# Altium footprint library Con IDC.PcbLib: 111 footprints (part 3 of 8)
Each footprint in its own frame and in the unit in brackets; x right, y up, seen from the top. Pads: shape width x height; smd on the part's side, far side on the other; paste and mask are expansions set on the pad; w line width, h text height; cw(c..) or ccw(c..) is an arc to the next point about the centre after c.
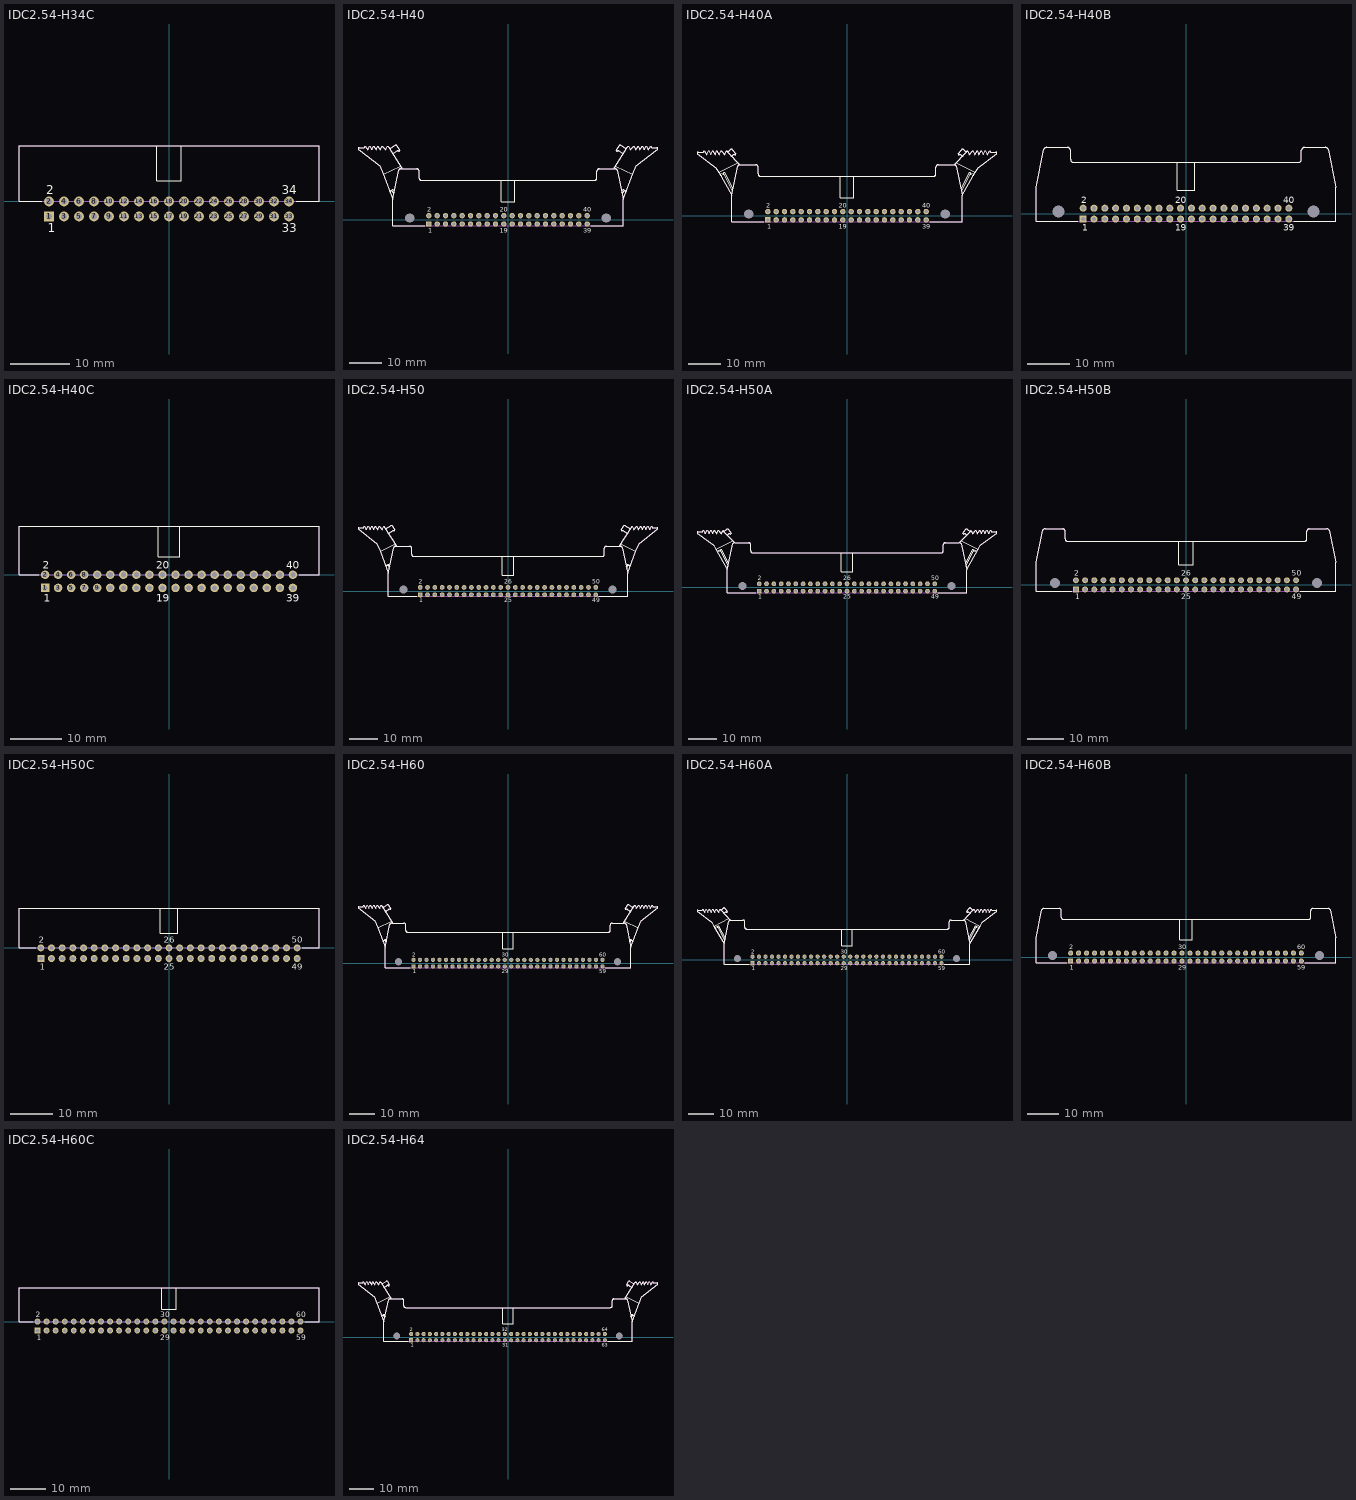
[diagram p2: the footprints below, top view; thin cyan lines are the x and y axes]

## IDC2.54-H34C [mm] "Connector; IDC, Low Profile Male Header, Thru-Hole; 34 Position; Right Angle; Pitch 2.54 mm; Body 50.80 x 8.9 x 9.2 mm (LxWxH)"
height 9.2
pads (34):
  rect 1.65x1.65 hole 1: 1(-20.32,-2.54)
  round 1.65 hole 1: 2(-20.32,0) 3(-17.78,-2.54) 4(-17.78,0) 5(-15.24,-2.54) 6(-15.24,0) 7(-12.7,-2.54) 8(-12.7,0) 9(-10.16,-2.54) 10(-10.16,0) 11(-7.62,-2.54) 12(-7.62,0) 13(-5.08,-2.54) 14(-5.08,0) 15(-2.54,-2.54) 16(-2.54,0) 17(0,-2.54) 18(0,0) 19(2.54,-2.54) 20(2.54,0) 21(5.08,-2.54) 22(5.08,0) 23(7.62,-2.54) 24(7.62,0) 25(10.16,-2.54) 26(10.16,0) 27(12.7,-2.54) 28(12.7,0) 29(15.24,-2.54) 30(15.24,0) 31(17.78,-2.54) 32(17.78,0) 33(20.32,-2.54) 34(20.32,0)
Top Overlay:
  lines w0.2: -21.545,0 -25.4,0 -25.4,9.45 25.4,9.45 25.4,0 21.545,0 ; -2.05,9.45 -2.05,3.48 2.05,3.48 2.05,9.45
  text "33" at 19.07,-5.24 h1.5
  text "34" at 19.07,1.2 h1.5
  text "1" at -20.57,-5.24 h1.5
  text "2" at -20.82,1.2 h1.5
Mechanical 13:
  lines w0.1: -25.4,0 25.4,0 25.4,9.45 -25.4,9.45 -25.4,0
3D body: height 9.2, standoff 0, extent -25.4,0 25.4,9.45

## IDC2.54-H40 [mm] "Connector; IDC, Thru-Hole; 40 Position; Right Angle; Pitch 2.54 mm; Body 70.40 x 8.5 x 25.75 mm (LxHxW), Locking levers"
height 8.5
pads (42):
  rect 1.65x1.65 hole 1: 1(-24.13,-1.27)
  round 1.65 hole 1: 2(-24.13,1.27) 3(-21.59,-1.27) 4(-21.59,1.27) 5(-19.05,-1.27) 6(-19.05,1.27) 7(-16.51,-1.27) 8(-16.51,1.27) 9(-13.97,-1.27) 10(-13.97,1.27) 11(-11.43,-1.27) 12(-11.43,1.27) 13(-8.89,-1.27) 14(-8.89,1.27) 15(-6.35,-1.27) 16(-6.35,1.27) 17(-3.81,-1.27) 18(-3.81,1.27) 19(-1.27,-1.27) 20(-1.27,1.27) 21(1.27,-1.27) 22(1.27,1.27) 23(3.81,-1.27) 24(3.81,1.27) 25(6.35,-1.27) 26(6.35,1.27) 27(8.89,-1.27) 28(8.89,1.27) 29(11.43,-1.27) 30(11.43,1.27) 31(13.97,-1.27) 32(13.97,1.27) 33(16.51,-1.27) 34(16.51,1.27) 35(19.05,-1.27) 36(19.05,1.27) 37(21.59,-1.27) 38(21.59,1.27) 39(24.13,-1.27) 40(24.13,1.27)
  round 2.5 hole 2.8 unplated: MH1(-29.97,0.53) MH2(29.97,0.53)
Top Overlay:
  lines w0.2: -36.17,8.851 -35.205,9.3 ; -36.041,8.563 -35.37,8.877 ; -36.035,21.6 -34.312,22.725 cw(c-34.163,22.387) -33.897,22.644 -32.972,21.245 cw(c-33.292,21.225) -33.344,20.91 ccw(c-33.612,20.595) -33.747,20.985 ; -35.113,20.103 -33.75,20.991 ; -34.843,7.925 -35.37,8.877 ; -34.743,8.378 -35.205,9.3 ; -33.37,15.102 cw(c-32.725,14.83) -32.71,15.53 ; -32.815,16.383 -38.039,13.84 ; -32.65,15.53 ccw(c-32.665,14.83) -33.31,15.102 -35.2,6.23 ; -32.244,15.53 -36.378,22.058 ccw(c-36.701,21.956) -36.843,22.265 -37.25,21.301 -38.28,22.501 -38.91,21.301 -39.66,22.501 -40.21,21.301 -40.91,22.501 -41.53,21.301 -42.18,22.501 -42.78,21.301 -43.525,22.501 ; -25.355,-1.77 -35.2,-1.77 -35.2,6.23 ; -2.05,5.53 -2.05,12.03 ; -2.04,5.53 2.06,5.53 ; 2.05,5.534 2.05,12.03 ; 25.24,-1.77 35.2,-1.77 35.2,6.23 ; 32.244,15.53 36.378,22.058 cw(c36.701,21.956) 36.843,22.265 37.25,21.301 38.28,22.501 38.91,21.301 39.66,22.501 40.21,21.301 40.91,22.501 41.53,21.301 42.18,22.501 42.78,21.301 43.525,22.501 ; 32.65,15.53 cw(c32.665,14.83) 33.31,15.102 35.2,6.23 ; 32.66,15.53 27.8,15.53 ccw(c27.8,14.83) 27.1,14.83 27.1,12.73 cw(c26.4,12.73) 26.4,12.03 -26.4,12.03 cw(c-26.4,12.73) -27.1,12.73 -27.1,14.83 ccw(c-27.8,14.83) -27.8,15.53 ; 32.815,16.383 38.039,13.84 ; 33.747,20.985 ccw(c33.612,20.595) 33.344,20.91 cw(c33.292,21.225) 32.972,21.245 33.897,22.644 cw(c34.163,22.387) 34.312,22.725 36.035,21.6 ; 33.75,20.991 35.113,20.103 ; 34.743,8.378 35.205,9.3 ; 34.843,7.925 35.37,8.877 ; 36.041,8.563 35.37,8.877 ; 36.17,8.851 35.205,9.3 ; -43.78,22.03 -43.525,22.501 ; -43.78,22.03 -43.525,22.501 ; -43.78,22.03 -45.391,22.03 ccw(c-45.391,21.69) -45.7,21.549 -39.165,16.455 -38.039,13.84 ; -38.039,13.84 -35.2,6.23 ; -35.37,8.877 -35.205,9.3 ; -27.8,15.53 -32.66,15.53 -27.8,15.53 ; 35.2,6.23 38.039,13.84 ; 35.205,9.3 35.37,8.877 ; 38.039,13.84 39.165,16.455 45.7,21.549 ccw(c45.391,21.69) 45.391,22.03 43.78,22.03 ; 43.525,22.501 43.78,22.03 ; 43.525,22.501 43.78,22.03
  text "39" at 22.88,-3.97 h1.5
  text "40" at 22.88,2.47 h1.5
  text "1" at -24.38,-3.97 h1.5
  text "2" at -24.63,2.47 h1.5
  text "20" at -2.52,2.47 h1.5
  text "19" at -2.52,-3.97 h1.5
Mechanical 13:
  lines w0.1: -36.035,21.6 -34.312,22.725 cw(c-34.163,22.387) -33.897,22.644 -32.972,21.245 cw(c-33.292,21.225) -33.344,20.91 ccw(c-33.612,20.595) -33.747,20.985 ; -35.113,20.103 -33.75,20.991 ; -33.37,15.102 cw(c-32.725,14.83) -32.71,15.53 ; -32.65,15.53 ccw(c-32.665,14.83) -33.31,15.102 -35.2,6.23 ; -32.244,15.53 -36.378,22.058 ccw(c-36.701,21.956) -36.843,22.265 -37.25,21.301 -38.28,22.501 -38.91,21.301 -39.66,22.501 -40.21,21.301 -40.91,22.501 -41.53,21.301 -42.18,22.501 -42.78,21.301 -43.525,22.501 ; 32.244,15.53 36.378,22.058 cw(c36.701,21.956) 36.843,22.265 37.25,21.301 38.28,22.501 38.91,21.301 39.66,22.501 40.21,21.301 40.91,22.501 41.53,21.301 42.18,22.501 42.78,21.301 43.525,22.501 ; 32.65,15.53 cw(c32.665,14.83) 33.31,15.102 35.2,6.23 ; 32.66,15.53 27.8,15.53 ccw(c27.8,14.83) 27.1,14.83 27.1,12.73 cw(c26.4,12.73) 26.4,12.03 -26.4,12.03 cw(c-26.4,12.73) -27.1,12.73 -27.1,14.83 ccw(c-27.8,14.83) -27.8,15.53 ; 33.747,20.985 ccw(c33.612,20.595) 33.344,20.91 cw(c33.292,21.225) 32.972,21.245 33.897,22.644 cw(c34.163,22.387) 34.312,22.725 36.035,21.6 ; 33.75,20.991 35.113,20.103 ; -43.78,22.03 -43.525,22.501 ; -43.78,22.03 -43.525,22.501 ; -43.78,22.03 -45.391,22.03 ccw(c-45.391,21.69) -45.7,21.549 -39.165,16.455 -38.039,13.84 -35.2,6.23 ; -35.2,6.23 -35.2,-1.77 35.2,-1.77 35.2,6.23 ; -27.8,15.53 -32.66,15.53 -27.8,15.53 ; 35.2,6.23 38.039,13.84 39.165,16.455 45.7,21.549 ccw(c45.391,21.69) 45.391,22.03 43.78,22.03 ; 43.525,22.501 43.78,22.03 ; 43.525,22.501 43.78,22.03
3D body: height 8.5, standoff 0, extent -35.2,-1.801 35.201,15.502

## IDC2.54-H40A [mm] "Connector; IDC, Thru-Hole; 40 Position; Right Angle; Pitch 2.54 mm; Body 70.40 x 8.5 x 23.30 mm (LxHxW), Locking levers"
height 8.5
pads (42):
  rect 1.65x1.65 hole 1: 1(-24.13,-1.27)
  round 1.65 hole 1: 2(-24.13,1.27) 3(-21.59,-1.27) 4(-21.59,1.27) 5(-19.05,-1.27) 6(-19.05,1.27) 7(-16.51,-1.27) 8(-16.51,1.27) 9(-13.97,-1.27) 10(-13.97,1.27) 11(-11.43,-1.27) 12(-11.43,1.27) 13(-8.89,-1.27) 14(-8.89,1.27) 15(-6.35,-1.27) 16(-6.35,1.27) 17(-3.81,-1.27) 18(-3.81,1.27) 19(-1.27,-1.27) 20(-1.27,1.27) 21(1.27,-1.27) 22(1.27,1.27) 23(3.81,-1.27) 24(3.81,1.27) 25(6.35,-1.27) 26(6.35,1.27) 27(8.89,-1.27) 28(8.89,1.27) 29(11.43,-1.27) 30(11.43,1.27) 31(13.97,-1.27) 32(13.97,1.27) 33(16.51,-1.27) 34(16.51,1.27) 35(19.05,-1.27) 36(19.05,1.27) 37(21.59,-1.27) 38(21.59,1.27) 39(24.13,-1.27) 40(24.13,1.27)
  round 2.5 hole 2.8 unplated: MH1(-29.97,0.53) MH2(29.97,0.53)
Top Overlay:
  lines w0.2: -38.869,12.722 -37.381,13.218 ; -38.641,12.377 -37.623,12.716 ; -35.238,18.198 -34.673,18.617 cw(c-34.537,18.227) -34.27,18.542 ccw(c-34.217,18.857) -33.898,18.877 -34.957,20.156 ccw(c-35.223,19.899) -35.372,20.238 -36.378,19.388 ; -34.953,7.442 -37.623,12.716 ; -34.806,8.195 -37.381,13.218 ; -33.37,15.102 cw(c-32.725,14.83) -32.71,15.53 ; -33.32,16.204 -39.139,13.199 ; -32.707,15.533 -36.378,19.388 ; -32.65,15.53 ccw(c-32.665,14.83) -33.31,15.102 -35.2,6.23 ; -25.355,-1.77 -35.2,-1.77 -35.2,6.23 ; -2.05,5.53 -2.05,12.03 ; -2.04,5.53 2.06,5.53 ; 2.05,5.534 2.05,12.03 ; 25.24,-1.77 35.2,-1.77 35.2,6.23 ; 32.65,15.53 cw(c32.665,14.83) 33.31,15.102 35.2,6.23 ; 32.66,15.53 27.8,15.53 ccw(c27.8,14.83) 27.1,14.83 27.1,12.73 cw(c26.4,12.73) 26.4,12.03 -26.4,12.03 cw(c-26.4,12.73) -27.1,12.73 -27.1,14.83 ccw(c-27.8,14.83) -27.8,15.53 ; 32.707,15.533 36.378,19.388 ; 33.32,16.204 39.139,13.199 ; 34.806,8.195 37.381,13.218 ; 34.953,7.442 37.623,12.716 ; 35.238,18.198 34.673,18.617 ccw(c34.537,18.227) 34.27,18.542 cw(c34.217,18.857) 33.898,18.877 34.957,20.156 cw(c35.223,19.899) 35.372,20.238 36.378,19.388 ; 38.641,12.377 37.623,12.716 ; 38.869,12.722 37.381,13.218 ; -43.78,19.359 -43.524,19.83 ; -43.78,19.359 -43.524,19.83 ; -43.78,19.359 -45.391,19.359 ccw(c-45.391,19.02) -45.7,18.879 -39.945,14.654 -39.139,13.199 ; -43.524,19.83 -42.78,18.63 -42.18,19.83 -41.53,18.63 -40.91,19.83 -40.21,18.63 -39.66,19.83 -38.91,18.63 -38.28,19.83 -37.25,18.63 -36.843,19.594 cw(c-36.701,19.285) -36.378,19.388 ; -39.139,13.199 -35.2,6.23 ; -37.623,12.716 -37.381,13.218 ; -27.8,15.53 -32.66,15.53 -27.8,15.53 ; 35.2,6.23 39.139,13.199 ; 36.378,19.388 cw(c36.701,19.285) 36.843,19.594 37.25,18.63 38.28,19.83 38.91,18.63 39.66,19.83 40.21,18.63 40.91,19.83 41.53,18.63 42.18,19.83 42.78,18.63 43.524,19.83 ; 37.381,13.218 37.623,12.716 ; 39.139,13.199 39.945,14.654 45.7,18.879 ccw(c45.391,19.02) 45.391,19.359 43.78,19.359 ; 43.524,19.83 43.78,19.359 ; 43.524,19.83 43.78,19.359
  text "19" at -2.52,-3.97 h1.5
  text "20" at -2.52,2.47 h1.5
  text "2" at -24.63,2.47 h1.5
  text "1" at -24.38,-3.97 h1.5
  text "40" at 22.88,2.47 h1.5
  text "39" at 22.88,-3.97 h1.5
Mechanical 13:
  lines w0.1: -35.238,18.198 -34.673,18.617 cw(c-34.537,18.227) -34.27,18.542 ccw(c-34.217,18.857) -33.898,18.877 -34.957,20.156 ccw(c-35.223,19.899) -35.372,20.238 -36.378,19.388 ; -33.37,15.102 cw(c-32.725,14.83) -32.71,15.53 ; -32.707,15.533 -36.378,19.388 ; -32.65,15.53 ccw(c-32.665,14.83) -33.31,15.102 -35.2,6.23 ; 32.65,15.53 cw(c32.665,14.83) 33.31,15.102 35.2,6.23 ; 32.66,15.53 27.8,15.53 ccw(c27.8,14.83) 27.1,14.83 27.1,12.73 cw(c26.4,12.73) 26.4,12.03 -26.4,12.03 cw(c-26.4,12.73) -27.1,12.73 -27.1,14.83 ccw(c-27.8,14.83) -27.8,15.53 ; 32.707,15.533 36.378,19.388 ; 35.238,18.198 34.673,18.617 ccw(c34.537,18.227) 34.27,18.542 cw(c34.217,18.857) 33.898,18.877 34.957,20.156 cw(c35.223,19.899) 35.372,20.238 36.378,19.388 ; -43.78,19.359 -43.524,19.83 ; -43.78,19.359 -45.391,19.359 ccw(c-45.391,19.02) -45.7,18.879 -39.945,14.654 -39.139,13.199 -35.2,6.23 ; -43.78,19.359 -43.524,19.83 ; -43.524,19.83 -42.78,18.63 -42.18,19.83 -41.53,18.63 -40.91,19.83 -40.21,18.63 -39.66,19.83 -38.91,18.63 -38.28,19.83 -37.25,18.63 -36.843,19.594 cw(c-36.701,19.285) -36.378,19.388 ; -35.2,6.23 -35.2,-1.77 35.2,-1.77 35.2,6.23 ; -27.8,15.53 -32.66,15.53 -27.8,15.53 ; 35.2,6.23 39.139,13.199 39.945,14.654 45.7,18.879 ccw(c45.391,19.02) 45.391,19.359 43.78,19.359 ; 36.378,19.388 cw(c36.701,19.285) 36.843,19.594 37.25,18.63 38.28,19.83 38.91,18.63 39.66,19.83 40.21,18.63 40.91,19.83 41.53,18.63 42.18,19.83 42.78,18.63 43.524,19.83 ; 43.524,19.83 43.78,19.359 ; 43.524,19.83 43.78,19.359
3D body: height 8.5, standoff 0, extent -35.2,-1.801 35.201,15.502

## IDC2.54-H40B [mm] "Connector; IDC, Thru-Hole; 40 Position; Right Angle; Pitch 2.54 mm; Body 70.40 x 8.5 x 17.30 mm (LxHxW), Without locking levers"
height 8.5
pads (42):
  rect 1.65x1.65 hole 1: 1(-24.13,-1.27)
  round 1.65 hole 1: 2(-24.13,1.27) 3(-21.59,-1.27) 4(-21.59,1.27) 5(-19.05,-1.27) 6(-19.05,1.27) 7(-16.51,-1.27) 8(-16.51,1.27) 9(-13.97,-1.27) 10(-13.97,1.27) 11(-11.43,-1.27) 12(-11.43,1.27) 13(-8.89,-1.27) 14(-8.89,1.27) 15(-6.35,-1.27) 16(-6.35,1.27) 17(-3.81,-1.27) 18(-3.81,1.27) 19(-1.27,-1.27) 20(-1.27,1.27) 21(1.27,-1.27) 22(1.27,1.27) 23(3.81,-1.27) 24(3.81,1.27) 25(6.35,-1.27) 26(6.35,1.27) 27(8.89,-1.27) 28(8.89,1.27) 29(11.43,-1.27) 30(11.43,1.27) 31(13.97,-1.27) 32(13.97,1.27) 33(16.51,-1.27) 34(16.51,1.27) 35(19.05,-1.27) 36(19.05,1.27) 37(21.59,-1.27) 38(21.59,1.27) 39(24.13,-1.27) 40(24.13,1.27)
  round 2.5 hole 2.8 unplated: MH1(-29.97,0.53) MH2(29.97,0.53)
Top Overlay:
  lines w0.2: -32.71,15.53 ccw(c-32.725,14.83) -33.37,15.102 -35.2,6.23 -35.2,-1.77 -25.355,-1.77 ; -32.66,15.53 -27.8,15.53 cw(c-27.8,14.83) -27.1,14.83 -27.1,12.73 ccw(c-26.4,12.73) -26.4,12.03 26.4,12.03 ccw(c26.4,12.73) 27.1,12.73 27.1,14.83 cw(c27.8,14.83) 27.8,15.53 32.66,15.53 ; -2.05,5.53 -2.05,12.03 ; -2.04,5.53 2.06,5.53 ; 2.05,5.534 2.05,12.03 ; 25.24,-1.77 35.2,-1.77 35.2,6.23 33.37,15.102 ccw(c32.725,14.83) 32.71,15.53
  text "19" at -2.52,-3.97 h1.5
  text "20" at -2.52,2.47 h1.5
  text "2" at -24.63,2.47 h1.5
  text "1" at -24.38,-3.97 h1.5
  text "40" at 22.88,2.47 h1.5
  text "39" at 22.88,-3.97 h1.5
Mechanical 13:
  lines w0.1: -32.71,15.53 ccw(c-32.725,14.83) -33.37,15.102 -35.2,6.23 -35.2,-1.77 35.2,-1.77 35.2,6.23 33.37,15.102 ccw(c32.725,14.83) 32.71,15.53 ; -32.66,15.53 -27.8,15.53 cw(c-27.8,14.83) -27.1,14.83 -27.1,12.73 ccw(c-26.4,12.73) -26.4,12.03 26.4,12.03 ccw(c26.4,12.73) 27.1,12.73 27.1,14.83 cw(c27.8,14.83) 27.8,15.53 32.66,15.53
3D body: height 8.5, standoff 0, extent -35.2,-1.801 35.201,15.502

## IDC2.54-H40C [mm] "Connector; IDC, Low Profile Male Header, Thru-Hole; 40 Position; Right Angle; Pitch 2.54 mm; Body 58.42 x 8.9 x 9.2 mm (LxWxH)"
height 9.2
pads (40):
  rect 1.65x1.65 hole 1: 1(-24.13,-2.54)
  round 1.65 hole 1: 2(-24.13,0) 3(-21.59,-2.54) 4(-21.59,0) 5(-19.05,-2.54) 6(-19.05,0) 7(-16.51,-2.54) 8(-16.51,0) 9(-13.97,-2.54) 10(-13.97,0) 11(-11.43,-2.54) 12(-11.43,0) 13(-8.89,-2.54) 14(-8.89,0) 15(-6.35,-2.54) 16(-6.35,0) 17(-3.81,-2.54) 18(-3.81,0) 19(-1.27,-2.54) 20(-1.27,0) 21(1.27,-2.54) 22(1.27,0) 23(3.81,-2.54) 24(3.81,0) 25(6.35,-2.54) 26(6.35,0) 27(8.89,-2.54) 28(8.89,0) 29(11.43,-2.54) 30(11.43,0) 31(13.97,-2.54) 32(13.97,0) 33(16.51,-2.54) 34(16.51,0) 35(19.05,-2.54) 36(19.05,0) 37(21.59,-2.54) 38(21.59,0) 39(24.13,-2.54) 40(24.13,0)
Top Overlay:
  lines w0.2: -25.355,0 -29.21,0 -29.21,9.45 29.21,9.45 29.21,0 25.355,0 ; -2.05,9.45 -2.05,3.48 2.05,3.48 2.05,9.45
  text "19" at -2.52,-5.24 h1.5
  text "20" at -2.52,1.2 h1.5
  text "2" at -24.63,1.2 h1.5
  text "1" at -24.38,-5.24 h1.5
  text "40" at 22.88,1.2 h1.5
  text "39" at 22.88,-5.24 h1.5
Mechanical 13:
  lines w0.1: -29.21,0 -29.21,9.45 29.21,9.45 29.21,0 -29.21,0
3D body: height 9.2, standoff 0, extent -29.21,0 29.21,9.45

## IDC2.54-H50 [mm] "Connector; IDC, Thru-Hole; 50 Position; Right Angle; Pitch 2.54 mm; Body 83.10 x 8.5 x 25.75 mm (LxHxW), Locking levers"
height 8.5
pads (52):
  rect 1.65x1.65 hole 1: 1(-30.48,-1.27)
  round 1.65 hole 1: 2(-30.48,1.27) 3(-27.94,-1.27) 4(-27.94,1.27) 5(-25.4,-1.27) 6(-25.4,1.27) 7(-22.86,-1.27) 8(-22.86,1.27) 9(-20.32,-1.27) 10(-20.32,1.27) 11(-17.78,-1.27) 12(-17.78,1.27) 13(-15.24,-1.27) 14(-15.24,1.27) 15(-12.7,-1.27) 16(-12.7,1.27) 17(-10.16,-1.27) 18(-10.16,1.27) 19(-7.62,-1.27) 20(-7.62,1.27) 21(-5.08,-1.27) 22(-5.08,1.27) 23(-2.54,-1.27) 24(-2.54,1.27) 25(0,-1.27) 26(0,1.27) 27(2.54,-1.27) 28(2.54,1.27) 29(5.08,-1.27) 30(5.08,1.27) 31(7.62,-1.27) 32(7.62,1.27) 33(10.16,-1.27) 34(10.16,1.27) 35(12.7,-1.27) 36(12.7,1.27) 37(15.24,-1.27) 38(15.24,1.27) 39(17.78,-1.27) 40(17.78,1.27) 41(20.32,-1.27) 42(20.32,1.27) 43(22.86,-1.27) 44(22.86,1.27) 45(25.4,-1.27) 46(25.4,1.27) 47(27.94,-1.27) 48(27.94,1.27) 49(30.48,-1.27) 50(30.48,1.27)
  round 2.5 hole 2.8 unplated: MH1(-36.32,0.53) MH2(36.32,0.53)
Top Overlay:
  lines w0.2: -42.52,8.851 -41.555,9.3 ; -42.391,8.563 -41.72,8.877 ; -42.385,21.6 -40.662,22.725 cw(c-40.513,22.387) -40.247,22.644 -39.322,21.245 cw(c-39.642,21.225) -39.694,20.91 ccw(c-39.962,20.595) -40.097,20.985 ; -41.463,20.103 -40.1,20.991 ; -41.193,7.925 -41.72,8.877 ; -41.093,8.378 -41.555,9.3 ; -39.165,16.383 -44.389,13.84 ; -39.01,15.53 -34.15,15.53 ; -39,15.53 ccw(c-39.015,14.83) -39.66,15.102 -41.55,6.23 ; -38.594,15.53 -42.728,22.058 ccw(c-43.051,21.956) -43.193,22.265 -43.6,21.301 -44.63,22.501 -45.26,21.301 -46.01,22.501 -46.56,21.301 -47.26,22.501 -47.88,21.301 -48.53,22.501 -49.13,21.301 -49.875,22.501 ; -34.165,15.53 cw(c-34.165,14.83) -33.465,14.83 -33.465,12.73 ccw(c-32.765,12.73) -32.765,12.03 32.765,12.03 ccw(c32.765,12.73) 33.465,12.73 33.465,14.83 cw(c34.165,14.83) 34.165,15.53 ; -31.705,-1.77 -41.55,-1.77 -41.55,6.23 ; -2.05,5.53 -2.05,12.03 ; -2.04,5.53 2.06,5.53 ; 2.05,5.534 2.05,12.03 ; 31.59,-1.77 41.55,-1.77 41.55,6.23 ; 34.15,15.53 39.01,15.53 ; 38.594,15.53 42.728,22.058 cw(c43.051,21.956) 43.193,22.265 43.6,21.301 44.63,22.501 45.26,21.301 46.01,22.501 46.56,21.301 47.26,22.501 47.88,21.301 48.53,22.501 49.13,21.301 49.875,22.501 ; 39,15.53 cw(c39.015,14.83) 39.66,15.102 41.55,6.23 ; 39.165,16.383 44.389,13.84 ; 40.097,20.985 ccw(c39.962,20.595) 39.694,20.91 cw(c39.642,21.225) 39.322,21.245 40.247,22.644 cw(c40.513,22.387) 40.662,22.725 42.385,21.6 ; 40.1,20.991 41.463,20.103 ; 41.093,8.378 41.555,9.3 ; 41.193,7.925 41.72,8.877 ; 42.391,8.563 41.72,8.877 ; 42.52,8.851 41.555,9.3 ; -50.13,22.03 -49.875,22.501 ; -50.13,22.03 -49.875,22.501 ; -50.13,22.03 -51.741,22.03 ccw(c-51.741,21.69) -52.05,21.549 -45.515,16.455 -44.389,13.84 ; -44.389,13.84 -41.55,6.23 ; -41.72,8.877 -41.555,9.3 ; 41.55,6.23 44.389,13.84 ; 41.555,9.3 41.72,8.877 ; 44.389,13.84 45.515,16.455 52.05,21.549 ccw(c51.741,21.69) 51.741,22.03 50.13,22.03 ; 49.875,22.501 50.13,22.03 ; 49.875,22.501 50.13,22.03
  text "25" at -1.25,-3.97 h1.5
  text "26" at -1.27,2.54 h1.5
  text "2" at -30.98,2.47 h1.5
  text "1" at -30.73,-3.97 h1.5
  text "50" at 29.23,2.47 h1.5
  text "49" at 29.23,-3.97 h1.5
Mechanical 13:
  lines w0.1: -42.385,21.6 -40.662,22.725 cw(c-40.513,22.387) -40.247,22.644 -39.322,21.245 cw(c-39.642,21.225) -39.694,20.91 ccw(c-39.962,20.595) -40.097,20.985 ; -41.463,20.103 -40.1,20.991 ; -39.01,15.53 -34.15,15.53 ; -39,15.53 ccw(c-39.015,14.83) -39.66,15.102 -41.55,6.23 ; -38.594,15.53 -42.728,22.058 ccw(c-43.051,21.956) -43.193,22.265 -43.6,21.301 -44.63,22.501 -45.26,21.301 -46.01,22.501 -46.56,21.301 -47.26,22.501 -47.88,21.301 -48.53,22.501 -49.13,21.301 -49.875,22.501 ; -34.165,15.53 cw(c-34.165,14.83) -33.465,14.83 -33.465,12.73 ccw(c-32.765,12.73) -32.765,12.03 32.765,12.03 ccw(c32.765,12.73) 33.465,12.73 33.465,14.83 cw(c34.165,14.83) 34.165,15.53 ; 34.15,15.53 39.01,15.53 ; 38.594,15.53 42.728,22.058 cw(c43.051,21.956) 43.193,22.265 43.6,21.301 44.63,22.501 45.26,21.301 46.01,22.501 46.56,21.301 47.26,22.501 47.88,21.301 48.53,22.501 49.13,21.301 49.875,22.501 ; 39,15.53 cw(c39.015,14.83) 39.66,15.102 41.55,6.23 ; 40.097,20.985 ccw(c39.962,20.595) 39.694,20.91 cw(c39.642,21.225) 39.322,21.245 40.247,22.644 cw(c40.513,22.387) 40.662,22.725 42.385,21.6 ; 40.1,20.991 41.463,20.103 ; -50.13,22.03 -51.741,22.03 ccw(c-51.741,21.69) -52.05,21.549 -45.515,16.455 -44.389,13.84 -41.55,6.23 ; -50.13,22.03 -49.875,22.501 ; -50.13,22.03 -49.875,22.501 ; -41.55,6.23 -41.55,-1.77 41.55,-1.77 41.55,6.23 ; 41.55,6.23 44.389,13.84 45.515,16.455 52.05,21.549 ccw(c51.741,21.69) 51.741,22.03 50.13,22.03 ; 49.875,22.501 50.13,22.03 ; 49.875,22.501 50.13,22.03
3D body: height 8.5, standoff 0, extent -41.551,-1.771 41.551,15.533

## IDC2.54-H50A [mm] "Connector; IDC, Thru-Hole; 50 Position; Right Angle; Pitch 2.54 mm; Body 83.10 x 8.5 x 23.30 mm (LxHxW), Locking levers"
height 8.5
pads (52):
  rect 1.65x1.65 hole 1: 1(-30.48,-1.27)
  round 1.65 hole 1: 2(-30.48,1.27) 3(-27.94,-1.27) 4(-27.94,1.27) 5(-25.4,-1.27) 6(-25.4,1.27) 7(-22.86,-1.27) 8(-22.86,1.27) 9(-20.32,-1.27) 10(-20.32,1.27) 11(-17.78,-1.27) 12(-17.78,1.27) 13(-15.24,-1.27) 14(-15.24,1.27) 15(-12.7,-1.27) 16(-12.7,1.27) 17(-10.16,-1.27) 18(-10.16,1.27) 19(-7.62,-1.27) 20(-7.62,1.27) 21(-5.08,-1.27) 22(-5.08,1.27) 23(-2.54,-1.27) 24(-2.54,1.27) 25(0,-1.27) 26(0,1.27) 27(2.54,-1.27) 28(2.54,1.27) 29(5.08,-1.27) 30(5.08,1.27) 31(7.62,-1.27) 32(7.62,1.27) 33(10.16,-1.27) 34(10.16,1.27) 35(12.7,-1.27) 36(12.7,1.27) 37(15.24,-1.27) 38(15.24,1.27) 39(17.78,-1.27) 40(17.78,1.27) 41(20.32,-1.27) 42(20.32,1.27) 43(22.86,-1.27) 44(22.86,1.27) 45(25.4,-1.27) 46(25.4,1.27) 47(27.94,-1.27) 48(27.94,1.27) 49(30.48,-1.27) 50(30.48,1.27)
  round 2.5 hole 2.8 unplated: MH1(-36.32,0.53) MH2(36.32,0.53)
Top Overlay:
  lines w0.2: -45.219,12.722 -43.731,13.218 ; -44.991,12.377 -43.973,12.716 ; -41.588,18.198 -41.023,18.617 cw(c-40.887,18.227) -40.62,18.542 ccw(c-40.567,18.857) -40.248,18.877 -41.307,20.156 ccw(c-41.573,19.899) -41.722,20.238 -42.728,19.388 ; -41.303,7.442 -43.973,12.716 ; -41.156,8.195 -43.731,13.218 ; -39.67,16.204 -45.489,13.199 ; -39.057,15.533 -42.728,19.388 ; -39.01,15.53 -34.15,15.53 ; -39,15.53 ccw(c-39.015,14.83) -39.66,15.102 -41.55,6.23 ; -34.165,15.53 cw(c-34.165,14.83) -33.465,14.83 -33.465,12.73 ccw(c-32.765,12.73) -32.765,12.03 32.765,12.03 ccw(c32.765,12.73) 33.465,12.73 33.465,14.83 cw(c34.165,14.83) 34.165,15.53 ; -31.705,-1.77 -41.55,-1.77 -41.55,6.23 ; -2.05,5.53 -2.05,12.03 ; -2.04,5.53 2.06,5.53 ; 2.05,5.534 2.05,12.03 ; 31.59,-1.77 41.55,-1.77 41.55,6.23 ; 34.15,15.53 39.01,15.53 ; 39,15.53 cw(c39.015,14.83) 39.66,15.102 41.55,6.23 ; 39.057,15.533 42.728,19.388 ; 39.67,16.204 45.489,13.199 ; 41.156,8.195 43.731,13.218 ; 41.303,7.442 43.973,12.716 ; 41.588,18.198 41.023,18.617 ccw(c40.887,18.227) 40.62,18.542 cw(c40.567,18.857) 40.248,18.877 41.307,20.156 cw(c41.573,19.899) 41.722,20.238 42.728,19.388 ; 44.991,12.377 43.973,12.716 ; 45.219,12.722 43.731,13.218 ; -50.13,19.359 -51.741,19.359 ccw(c-51.741,19.02) -52.05,18.879 -46.295,14.654 -45.489,13.199 ; -50.13,19.359 -49.874,19.83 ; -50.13,19.359 -49.874,19.83 ; -49.874,19.83 -49.13,18.63 -48.53,19.83 -47.88,18.63 -47.26,19.83 -46.56,18.63 -46.01,19.83 -45.26,18.63 -44.63,19.83 -43.6,18.63 -43.193,19.594 cw(c-43.051,19.285) -42.728,19.388 ; -45.489,13.199 -41.55,6.23 ; -43.973,12.716 -43.731,13.218 ; 41.55,6.23 45.489,13.199 ; 42.728,19.388 cw(c43.051,19.285) 43.193,19.594 43.6,18.63 44.63,19.83 45.26,18.63 46.01,19.83 46.56,18.63 47.26,19.83 47.88,18.63 48.53,19.83 49.13,18.63 49.874,19.83 ; 43.731,13.218 43.973,12.716 ; 45.489,13.199 46.295,14.654 52.05,18.879 ccw(c51.741,19.02) 51.741,19.359 50.13,19.359 ; 49.874,19.83 50.13,19.359 ; 49.874,19.83 50.13,19.359
  text "2" at -30.98,2.47 h1.5
  text "1" at -30.73,-3.97 h1.5
  text "50" at 29.23,2.47 h1.5
  text "49" at 29.23,-3.97 h1.5
  text "26" at -1.25,2.47 h1.5
  text "25" at -1.25,-3.97 h1.5
Mechanical 13:
  lines w0.1: -41.588,18.198 -41.023,18.617 cw(c-40.887,18.227) -40.62,18.542 ccw(c-40.567,18.857) -40.248,18.877 -41.307,20.156 ccw(c-41.573,19.899) -41.722,20.238 -42.728,19.388 ; -39.057,15.533 -42.728,19.388 ; -39.01,15.53 -34.15,15.53 ; -39,15.53 ccw(c-39.015,14.83) -39.66,15.102 -41.55,6.23 ; -34.165,15.53 cw(c-34.165,14.83) -33.465,14.83 -33.465,12.73 ccw(c-32.765,12.73) -32.765,12.03 32.765,12.03 ccw(c32.765,12.73) 33.465,12.73 33.465,14.83 cw(c34.165,14.83) 34.165,15.53 ; 34.15,15.53 39.01,15.53 ; 39,15.53 cw(c39.015,14.83) 39.66,15.102 41.55,6.23 ; 39.057,15.533 42.728,19.388 ; 41.588,18.198 41.023,18.617 ccw(c40.887,18.227) 40.62,18.542 cw(c40.567,18.857) 40.248,18.877 41.307,20.156 cw(c41.573,19.899) 41.722,20.238 42.728,19.388 ; -50.13,19.359 -49.874,19.83 ; -50.13,19.359 -49.874,19.83 ; -50.13,19.359 -51.741,19.359 ccw(c-51.741,19.02) -52.05,18.879 -46.295,14.654 -45.489,13.199 -41.55,6.23 ; -49.874,19.83 -49.13,18.63 -48.53,19.83 -47.88,18.63 -47.26,19.83 -46.56,18.63 -46.01,19.83 -45.26,18.63 -44.63,19.83 -43.6,18.63 -43.193,19.594 cw(c-43.051,19.285) -42.728,19.388 ; -41.55,6.23 -41.55,-1.77 41.55,-1.77 41.55,6.23 ; 41.55,6.23 45.489,13.199 46.295,14.654 52.05,18.879 ccw(c51.741,19.02) 51.741,19.359 50.13,19.359 ; 42.728,19.388 cw(c43.051,19.285) 43.193,19.594 43.6,18.63 44.63,19.83 45.26,18.63 46.01,19.83 46.56,18.63 47.26,19.83 47.88,18.63 48.53,19.83 49.13,18.63 49.874,19.83 ; 49.874,19.83 50.13,19.359 ; 49.874,19.83 50.13,19.359
3D body: height 8.5, standoff 0, extent -41.551,-1.771 41.551,15.533

## IDC2.54-H50B [mm] "Connector; IDC, Thru-Hole; 50 Position; Right Angle; Pitch 2.54 mm; Body 83.10 x 8.5 x 17.30 mm (LxHxW), Without locking levers"
height 8.5
pads (52):
  rect 1.65x1.65 hole 1: 1(-30.48,-1.27)
  round 1.65 hole 1: 2(-30.48,1.27) 3(-27.94,-1.27) 4(-27.94,1.27) 5(-25.4,-1.27) 6(-25.4,1.27) 7(-22.86,-1.27) 8(-22.86,1.27) 9(-20.32,-1.27) 10(-20.32,1.27) 11(-17.78,-1.27) 12(-17.78,1.27) 13(-15.24,-1.27) 14(-15.24,1.27) 15(-12.7,-1.27) 16(-12.7,1.27) 17(-10.16,-1.27) 18(-10.16,1.27) 19(-7.62,-1.27) 20(-7.62,1.27) 21(-5.08,-1.27) 22(-5.08,1.27) 23(-2.54,-1.27) 24(-2.54,1.27) 25(0,-1.27) 26(0,1.27) 27(2.54,-1.27) 28(2.54,1.27) 29(5.08,-1.27) 30(5.08,1.27) 31(7.62,-1.27) 32(7.62,1.27) 33(10.16,-1.27) 34(10.16,1.27) 35(12.7,-1.27) 36(12.7,1.27) 37(15.24,-1.27) 38(15.24,1.27) 39(17.78,-1.27) 40(17.78,1.27) 41(20.32,-1.27) 42(20.32,1.27) 43(22.86,-1.27) 44(22.86,1.27) 45(25.4,-1.27) 46(25.4,1.27) 47(27.94,-1.27) 48(27.94,1.27) 49(30.48,-1.27) 50(30.48,1.27)
  round 2.5 hole 2.8 unplated: MH1(-36.32,0.53) MH2(36.32,0.53)
Top Overlay:
  lines w0.2: -39.67,15.102 -41.55,6.23 -41.55,-1.77 -31.705,-1.77 ; -39.67,15.102 cw(c-39.025,14.83) -39.01,15.53 -34.15,15.53 ; -34.165,15.53 cw(c-34.165,14.83) -33.465,14.83 -33.465,12.73 ccw(c-32.765,12.73) -32.765,12.03 32.765,12.03 ccw(c32.765,12.73) 33.465,12.73 33.465,14.83 cw(c34.165,14.83) 34.165,15.53 ; -2.05,5.53 -2.05,12.03 ; -2.04,5.53 2.06,5.53 ; 2.05,5.534 2.05,12.03 ; 31.59,-1.77 41.55,-1.77 41.55,6.23 39.66,15.102 ccw(c39.015,14.83) 39,15.53 ; 34.15,15.53 39.01,15.53
  text "49" at 29.23,-3.97 h1.5
  text "50" at 29.23,2.47 h1.5
  text "1" at -30.73,-3.97 h1.5
  text "2" at -30.98,2.47 h1.5
  text "26" at -1.25,2.47 h1.5
  text "25" at -1.25,-3.97 h1.5
Mechanical 13:
  lines w0.1: -39.67,15.102 -41.55,6.23 -41.55,-1.77 41.55,-1.77 41.55,6.23 39.66,15.102 ccw(c39.015,14.83) 39,15.53 ; -39.67,15.102 cw(c-39.025,14.83) -39.01,15.53 -34.15,15.53 ; -34.165,15.53 cw(c-34.165,14.83) -33.465,14.83 -33.465,12.73 ccw(c-32.765,12.73) -32.765,12.03 32.765,12.03 ccw(c32.765,12.73) 33.465,12.73 33.465,14.83 cw(c34.165,14.83) 34.165,15.53 ; 34.15,15.53 39.01,15.53
3D body: height 8.5, standoff 0, extent -41.551,-1.771 41.551,15.533

## IDC2.54-H50C [mm] "Connector; IDC, Low Profile Male Header, Thru-Hole; 50 Position; Right Angle; Pitch 2.54 mm; Body 71.32 x 8.9 x 9.2 mm (LxWxH)"
height 9.2
pads (50):
  rect 1.65x1.65 hole 1: 1(-30.48,-2.54)
  round 1.65 hole 1: 2(-30.48,0) 3(-27.94,-2.54) 4(-27.94,0) 5(-25.4,-2.54) 6(-25.4,0) 7(-22.86,-2.54) 8(-22.86,0) 9(-20.32,-2.54) 10(-20.32,0) 11(-17.78,-2.54) 12(-17.78,0) 13(-15.24,-2.54) 14(-15.24,0) 15(-12.7,-2.54) 16(-12.7,0) 17(-10.16,-2.54) 18(-10.16,0) 19(-7.62,-2.54) 20(-7.62,0) 21(-5.08,-2.54) 22(-5.08,0) 23(-2.54,-2.54) 24(-2.54,0) 25(0,-2.54) 26(0,0) 27(2.54,-2.54) 28(2.54,0) 29(5.08,-2.54) 30(5.08,0) 31(7.62,-2.54) 32(7.62,0) 33(10.16,-2.54) 34(10.16,0) 35(12.7,-2.54) 36(12.7,0) 37(15.24,-2.54) 38(15.24,0) 39(17.78,-2.54) 40(17.78,0) 41(20.32,-2.54) 42(20.32,0) 43(22.86,-2.54) 44(22.86,0) 45(25.4,-2.54) 46(25.4,0) 47(27.94,-2.54) 48(27.94,0) 49(30.48,-2.54) 50(30.48,0)
Top Overlay:
  lines w0.2: -31.705,0 -35.66,0 -35.66,9.45 35.66,9.45 35.66,0 31.705,0 ; -2.05,9.45 -2.05,3.48 2.05,3.48 2.05,9.45
  text "25" at -1.25,-5.24 h1.5
  text "26" at -1.25,1.2 h1.5
  text "50" at 29.21,1.2 h1.5
  text "49" at 29.23,-5.24 h1.5
  text "2" at -30.98,1.2 h1.5
  text "1" at -30.73,-5.24 h1.5
Mechanical 13:
  lines w0.1: -35.66,0 -35.66,9.45 35.66,9.45 35.66,0 -35.66,0
3D body: height 9.2, standoff 0, extent -35.66,0 35.66,9.45

## IDC2.54-H60 [mm] "Connector; IDC, Thru-Hole; 60 Position; Right Angle; Pitch 2.54 mm; Body 95.80 x 8.5 x 25.75 mm (LxHxW), Locking levers"
height 8.5
pads (62):
  rect 1.65x1.65 hole 1: 1(-36.83,-1.27)
  round 1.65 hole 1: 2(-36.83,1.27) 3(-34.29,-1.27) 4(-34.29,1.27) 5(-31.75,-1.27) 6(-31.75,1.27) 7(-29.21,-1.27) 8(-29.21,1.27) 9(-26.67,-1.27) 10(-26.67,1.27) 11(-24.13,-1.27) 12(-24.13,1.27) 13(-21.59,-1.27) 14(-21.59,1.27) 15(-19.05,-1.27) 16(-19.05,1.27) 17(-16.51,-1.27) 18(-16.51,1.27) 19(-13.97,-1.27) 20(-13.97,1.27) 21(-11.43,-1.27) 22(-11.43,1.27) 23(-8.89,-1.27) 24(-8.89,1.27) 25(-6.35,-1.27) 26(-6.35,1.27) 27(-3.81,-1.27) 28(-3.81,1.27) 29(-1.27,-1.27) 30(-1.27,1.27) 31(1.27,-1.27) 32(1.27,1.27) 33(3.81,-1.27) 34(3.81,1.27) 35(6.35,-1.27) 36(6.35,1.27) 37(8.89,-1.27) 38(8.89,1.27) 39(11.43,-1.27) 40(11.43,1.27) 41(13.97,-1.27) 42(13.97,1.27) 43(16.51,-1.27) 44(16.51,1.27) 45(19.05,-1.27) 46(19.05,1.27) 47(21.59,-1.27) 48(21.59,1.27) 49(24.13,-1.27) 50(24.13,1.27) 51(26.67,-1.27) 52(26.67,1.27) 53(29.21,-1.27) 54(29.21,1.27) 55(31.75,-1.27) 56(31.75,1.27) 57(34.29,-1.27) 58(34.29,1.27) 59(36.83,-1.27) 60(36.83,1.27)
  round 2.5 hole 2.8 unplated: MH1(-42.67,0.53) MH2(42.67,0.53)
Top Overlay:
  lines w0.2: -48.87,8.851 -47.905,9.3 ; -48.741,8.563 -48.07,8.877 ; -48.735,21.6 -47.012,22.725 cw(c-46.863,22.387) -46.597,22.644 -45.672,21.245 cw(c-45.992,21.225) -46.044,20.91 ccw(c-46.312,20.595) -46.447,20.985 ; -47.813,20.103 -46.45,20.991 ; -47.543,7.925 -48.07,8.877 ; -47.443,8.378 -47.905,9.3 ; -45.515,16.383 -50.739,13.84 ; -45.36,15.53 -40.515,15.53 cw(c-40.515,14.83) -39.815,14.83 -39.815,12.73 ccw(c-39.115,12.73) -39.115,12.03 39.115,12.03 ccw(c39.115,12.73) 39.815,12.73 39.815,14.83 cw(c40.515,14.83) 40.515,15.53 45.36,15.53 ; -45.35,15.53 ccw(c-45.365,14.83) -46.01,15.102 -47.9,6.23 ; -44.944,15.53 -49.078,22.058 ccw(c-49.401,21.956) -49.543,22.265 -49.95,21.301 -50.98,22.501 -51.61,21.301 -52.36,22.501 -52.91,21.301 -53.61,22.501 -54.23,21.301 -54.88,22.501 -55.48,21.301 -56.225,22.501 ; -38.055,-1.77 -47.9,-1.77 -47.9,6.23 ; -2.05,5.53 -2.05,12.03 ; -2.04,5.53 2.06,5.53 ; 2.05,5.534 2.05,12.03 ; 37.94,-1.77 47.9,-1.77 47.9,6.23 ; 44.944,15.53 49.078,22.058 cw(c49.401,21.956) 49.543,22.265 49.95,21.301 50.98,22.501 51.61,21.301 52.36,22.501 52.91,21.301 53.61,22.501 54.23,21.301 54.88,22.501 55.48,21.301 56.225,22.501 ; 45.35,15.53 cw(c45.365,14.83) 46.01,15.102 47.9,6.23 ; 45.515,16.383 50.739,13.84 ; 46.447,20.985 ccw(c46.312,20.595) 46.044,20.91 cw(c45.992,21.225) 45.672,21.245 46.597,22.644 cw(c46.863,22.387) 47.012,22.725 48.735,21.6 ; 46.45,20.991 47.813,20.103 ; 47.443,8.378 47.905,9.3 ; 47.543,7.925 48.07,8.877 ; 48.741,8.563 48.07,8.877 ; 48.87,8.851 47.905,9.3 ; -56.48,22.03 -58.091,22.03 ccw(c-58.091,21.69) -58.4,21.549 -51.865,16.455 -50.739,13.84 ; -56.48,22.03 -56.225,22.501 ; -56.48,22.03 -56.225,22.501 ; -50.739,13.84 -47.9,6.23 ; -48.07,8.877 -47.905,9.3 ; 47.9,6.23 50.739,13.84 ; 47.905,9.3 48.07,8.877 ; 50.739,13.84 51.865,16.455 58.4,21.549 ccw(c58.091,21.69) 58.091,22.03 56.48,22.03 ; 56.225,22.501 56.48,22.03 ; 56.225,22.501 56.48,22.03
  text "59" at 35.58,-3.97 h1.5
  text "60" at 35.58,2.47 h1.5
  text "1" at -37.08,-3.97 h1.5
  text "2" at -37.33,2.47 h1.5
  text "30" at -2.52,2.47 h1.5
  text "29" at -2.52,-3.97 h1.5
Mechanical 13:
  lines w0.1: -48.735,21.6 -47.012,22.725 cw(c-46.863,22.387) -46.597,22.644 -45.672,21.245 cw(c-45.992,21.225) -46.044,20.91 ccw(c-46.312,20.595) -46.447,20.985 ; -47.813,20.103 -46.45,20.991 ; -45.36,15.53 -40.515,15.53 cw(c-40.515,14.83) -39.815,14.83 -39.815,12.73 ccw(c-39.115,12.73) -39.115,12.03 39.115,12.03 ccw(c39.115,12.73) 39.815,12.73 39.815,14.83 cw(c40.515,14.83) 40.515,15.53 45.36,15.53 ; -45.35,15.53 ccw(c-45.365,14.83) -46.01,15.102 -47.9,6.23 ; -44.944,15.53 -49.078,22.058 ccw(c-49.401,21.956) -49.543,22.265 -49.95,21.301 -50.98,22.501 -51.61,21.301 -52.36,22.501 -52.91,21.301 -53.61,22.501 -54.23,21.301 -54.88,22.501 -55.48,21.301 -56.225,22.501 ; 44.944,15.53 49.078,22.058 cw(c49.401,21.956) 49.543,22.265 49.95,21.301 50.98,22.501 51.61,21.301 52.36,22.501 52.91,21.301 53.61,22.501 54.23,21.301 54.88,22.501 55.48,21.301 56.225,22.501 ; 45.35,15.53 cw(c45.365,14.83) 46.01,15.102 47.9,6.23 ; 46.447,20.985 ccw(c46.312,20.595) 46.044,20.91 cw(c45.992,21.225) 45.672,21.245 46.597,22.644 cw(c46.863,22.387) 47.012,22.725 48.735,21.6 ; 46.45,20.991 47.813,20.103 ; -56.48,22.03 -58.091,22.03 ccw(c-58.091,21.69) -58.4,21.549 -51.865,16.455 -50.739,13.84 -47.9,6.23 ; -56.48,22.03 -56.225,22.501 ; -56.48,22.03 -56.225,22.501 ; -47.9,6.23 -47.9,-1.77 47.9,-1.77 47.9,6.23 ; 47.9,6.23 50.739,13.84 51.865,16.455 58.4,21.549 ccw(c58.091,21.69) 58.091,22.03 56.48,22.03 ; 56.225,22.501 56.48,22.03 ; 56.225,22.501 56.48,22.03
3D body: height 8.5, standoff 0, extent -47.901,-1.771 47.901,15.533

## IDC2.54-H60A [mm] "Connector; IDC, Thru-Hole; 60 Position; Right Angle; Pitch 2.54 mm; Body 95.80 x 8.5 x 23.30 mm (LxHxW), Locking levers"
height 8.5
pads (62):
  rect 1.65x1.65 hole 1: 1(-36.83,-1.27)
  round 1.65 hole 1: 2(-36.83,1.27) 3(-34.29,-1.27) 4(-34.29,1.27) 5(-31.75,-1.27) 6(-31.75,1.27) 7(-29.21,-1.27) 8(-29.21,1.27) 9(-26.67,-1.27) 10(-26.67,1.27) 11(-24.13,-1.27) 12(-24.13,1.27) 13(-21.59,-1.27) 14(-21.59,1.27) 15(-19.05,-1.27) 16(-19.05,1.27) 17(-16.51,-1.27) 18(-16.51,1.27) 19(-13.97,-1.27) 20(-13.97,1.27) 21(-11.43,-1.27) 22(-11.43,1.27) 23(-8.89,-1.27) 24(-8.89,1.27) 25(-6.35,-1.27) 26(-6.35,1.27) 27(-3.81,-1.27) 28(-3.81,1.27) 29(-1.27,-1.27) 30(-1.27,1.27) 31(1.27,-1.27) 32(1.27,1.27) 33(3.81,-1.27) 34(3.81,1.27) 35(6.35,-1.27) 36(6.35,1.27) 37(8.89,-1.27) 38(8.89,1.27) 39(11.43,-1.27) 40(11.43,1.27) 41(13.97,-1.27) 42(13.97,1.27) 43(16.51,-1.27) 44(16.51,1.27) 45(19.05,-1.27) 46(19.05,1.27) 47(21.59,-1.27) 48(21.59,1.27) 49(24.13,-1.27) 50(24.13,1.27) 51(26.67,-1.27) 52(26.67,1.27) 53(29.21,-1.27) 54(29.21,1.27) 55(31.75,-1.27) 56(31.75,1.27) 57(34.29,-1.27) 58(34.29,1.27) 59(36.83,-1.27) 60(36.83,1.27)
  round 2.5 hole 2.8 unplated: MH1(-42.67,0.53) MH2(42.67,0.53)
Top Overlay:
  lines w0.2: -51.569,12.722 -50.081,13.218 ; -51.341,12.377 -50.323,12.716 ; -47.938,18.198 -47.373,18.617 cw(c-47.237,18.227) -46.97,18.542 ccw(c-46.917,18.857) -46.598,18.877 -47.657,20.156 ccw(c-47.923,19.899) -48.072,20.238 -49.078,19.388 ; -47.653,7.442 -50.323,12.716 ; -47.506,8.195 -50.081,13.218 ; -46.02,16.204 -51.839,13.199 ; -45.407,15.533 -49.078,19.388 ; -45.36,15.53 -40.515,15.53 cw(c-40.515,14.83) -39.815,14.83 -39.815,12.73 ccw(c-39.115,12.73) -39.115,12.03 39.115,12.03 ccw(c39.115,12.73) 39.815,12.73 39.815,14.83 cw(c40.515,14.83) 40.515,15.53 45.36,15.53 ; -45.35,15.53 ccw(c-45.365,14.83) -46.01,15.102 -47.9,6.23 ; -38.055,-1.77 -47.9,-1.77 -47.9,6.23 ; -2.05,5.53 -2.05,12.03 ; -2.04,5.53 2.06,5.53 ; 2.05,5.534 2.05,12.03 ; 37.94,-1.77 47.9,-1.77 47.9,6.23 ; 45.35,15.53 cw(c45.365,14.83) 46.01,15.102 47.9,6.23 ; 45.407,15.533 49.078,19.388 ; 46.02,16.204 51.839,13.199 ; 47.506,8.195 50.081,13.218 ; 47.653,7.442 50.323,12.716 ; 47.938,18.198 47.373,18.617 ccw(c47.237,18.227) 46.97,18.542 cw(c46.917,18.857) 46.598,18.877 47.657,20.156 cw(c47.923,19.899) 48.072,20.238 49.078,19.388 ; 51.341,12.377 50.323,12.716 ; 51.569,12.722 50.081,13.218 ; -56.48,19.359 -56.224,19.83 ; -56.48,19.359 -56.224,19.83 ; -56.48,19.359 -58.091,19.359 ccw(c-58.091,19.02) -58.4,18.879 -52.645,14.654 -51.839,13.199 ; -56.224,19.83 -55.48,18.63 -54.88,19.83 -54.23,18.63 -53.61,19.83 -52.91,18.63 -52.36,19.83 -51.61,18.63 -50.98,19.83 -49.95,18.63 -49.543,19.594 cw(c-49.401,19.285) -49.078,19.388 ; -51.839,13.199 -47.9,6.23 ; -50.323,12.716 -50.081,13.218 ; 47.9,6.23 51.839,13.199 ; 49.078,19.388 cw(c49.401,19.285) 49.543,19.594 49.95,18.63 50.98,19.83 51.61,18.63 52.36,19.83 52.91,18.63 53.61,19.83 54.23,18.63 54.88,19.83 55.48,18.63 56.224,19.83 ; 50.081,13.218 50.323,12.716 ; 51.839,13.199 52.645,14.654 58.4,18.879 ccw(c58.091,19.02) 58.091,19.359 56.48,19.359 ; 56.224,19.83 56.48,19.359 ; 56.224,19.83 56.48,19.359
  text "2" at -37.33,2.47 h1.5
  text "1" at -37.08,-3.97 h1.5
  text "60" at 35.58,2.47 h1.5
  text "59" at 35.58,-3.97 h1.5
  text "30" at -2.52,2.47 h1.5
  text "29" at -2.52,-3.97 h1.5
Mechanical 13:
  lines w0.1: -47.938,18.198 -47.373,18.617 cw(c-47.237,18.227) -46.97,18.542 ccw(c-46.917,18.857) -46.598,18.877 -47.657,20.156 ccw(c-47.923,19.899) -48.072,20.238 -49.078,19.388 ; -45.407,15.533 -49.078,19.388 ; -45.36,15.53 -40.515,15.53 cw(c-40.515,14.83) -39.815,14.83 -39.815,12.73 ccw(c-39.115,12.73) -39.115,12.03 39.115,12.03 ccw(c39.115,12.73) 39.815,12.73 39.815,14.83 cw(c40.515,14.83) 40.515,15.53 45.36,15.53 ; -45.35,15.53 ccw(c-45.365,14.83) -46.01,15.102 -47.9,6.23 ; 45.35,15.53 cw(c45.365,14.83) 46.01,15.102 47.9,6.23 ; 45.407,15.533 49.078,19.388 ; 47.938,18.198 47.373,18.617 ccw(c47.237,18.227) 46.97,18.542 cw(c46.917,18.857) 46.598,18.877 47.657,20.156 cw(c47.923,19.899) 48.072,20.238 49.078,19.388 ; -56.48,19.359 -58.091,19.359 ccw(c-58.091,19.02) -58.4,18.879 -52.645,14.654 -51.839,13.199 -47.9,6.23 ; -56.48,19.359 -56.224,19.83 ; -56.48,19.359 -56.224,19.83 ; -56.224,19.83 -55.48,18.63 -54.88,19.83 -54.23,18.63 -53.61,19.83 -52.91,18.63 -52.36,19.83 -51.61,18.63 -50.98,19.83 -49.95,18.63 -49.543,19.594 cw(c-49.401,19.285) -49.078,19.388 ; -47.9,6.23 -47.9,-1.77 47.9,-1.77 47.9,6.23 ; 47.9,6.23 51.839,13.199 52.645,14.654 58.4,18.879 ccw(c58.091,19.02) 58.091,19.359 56.48,19.359 ; 49.078,19.388 cw(c49.401,19.285) 49.543,19.594 49.95,18.63 50.98,19.83 51.61,18.63 52.36,19.83 52.91,18.63 53.61,19.83 54.23,18.63 54.88,19.83 55.48,18.63 56.224,19.83 ; 56.224,19.83 56.48,19.359 ; 56.224,19.83 56.48,19.359
3D body: height 8.5, standoff 0, extent -47.901,-1.771 47.901,15.533

## IDC2.54-H60B [mm] "Connector; IDC, Thru-Hole; 60 Position; Right Angle; Pitch 2.54 mm; Body 95.80 x 8.5 x 17.30 mm (LxHxW), Without locking levers"
height 8.5
pads (62):
  rect 1.65x1.65 hole 1: 1(-36.83,-1.27)
  round 1.65 hole 1: 2(-36.83,1.27) 3(-34.29,-1.27) 4(-34.29,1.27) 5(-31.75,-1.27) 6(-31.75,1.27) 7(-29.21,-1.27) 8(-29.21,1.27) 9(-26.67,-1.27) 10(-26.67,1.27) 11(-24.13,-1.27) 12(-24.13,1.27) 13(-21.59,-1.27) 14(-21.59,1.27) 15(-19.05,-1.27) 16(-19.05,1.27) 17(-16.51,-1.27) 18(-16.51,1.27) 19(-13.97,-1.27) 20(-13.97,1.27) 21(-11.43,-1.27) 22(-11.43,1.27) 23(-8.89,-1.27) 24(-8.89,1.27) 25(-6.35,-1.27) 26(-6.35,1.27) 27(-3.81,-1.27) 28(-3.81,1.27) 29(-1.27,-1.27) 30(-1.27,1.27) 31(1.27,-1.27) 32(1.27,1.27) 33(3.81,-1.27) 34(3.81,1.27) 35(6.35,-1.27) 36(6.35,1.27) 37(8.89,-1.27) 38(8.89,1.27) 39(11.43,-1.27) 40(11.43,1.27) 41(13.97,-1.27) 42(13.97,1.27) 43(16.51,-1.27) 44(16.51,1.27) 45(19.05,-1.27) 46(19.05,1.27) 47(21.59,-1.27) 48(21.59,1.27) 49(24.13,-1.27) 50(24.13,1.27) 51(26.67,-1.27) 52(26.67,1.27) 53(29.21,-1.27) 54(29.21,1.27) 55(31.75,-1.27) 56(31.75,1.27) 57(34.29,-1.27) 58(34.29,1.27) 59(36.83,-1.27) 60(36.83,1.27)
  round 2.5 hole 2.8 unplated: MH1(-42.67,0.53) MH2(42.67,0.53)
Top Overlay:
  lines w0.2: -46.02,15.102 -47.9,6.23 -47.9,-1.77 -38.055,-1.77 ; -46.02,15.102 cw(c-45.375,14.83) -45.36,15.53 -40.515,15.53 cw(c-40.515,14.83) -39.815,14.83 -39.815,12.73 ccw(c-39.115,12.73) -39.115,12.03 39.115,12.03 ccw(c39.115,12.73) 39.815,12.73 39.815,14.83 cw(c40.515,14.83) 40.515,15.53 45.36,15.53 ; -2.05,5.53 -2.05,12.03 ; -2.04,5.53 2.06,5.53 ; 2.05,5.534 2.05,12.03 ; 37.94,-1.77 47.9,-1.77 47.9,6.23 46.01,15.102 ccw(c45.365,14.83) 45.35,15.53
  text "29" at -2.52,-3.97 h1.5
  text "30" at -2.52,2.47 h1.5
  text "59" at 35.58,-3.97 h1.5
  text "60" at 35.58,2.47 h1.5
  text "1" at -37.08,-3.97 h1.5
  text "2" at -37.33,2.47 h1.5
Mechanical 13:
  lines w0.1: -46.02,15.102 -47.9,6.23 -47.9,-1.77 47.9,-1.77 47.9,6.23 46.01,15.102 ccw(c45.365,14.83) 45.35,15.53 ; -46.02,15.102 cw(c-45.375,14.83) -45.36,15.53 -40.515,15.53 cw(c-40.515,14.83) -39.815,14.83 -39.815,12.73 ccw(c-39.115,12.73) -39.115,12.03 39.115,12.03 ccw(c39.115,12.73) 39.815,12.73 39.815,14.83 cw(c40.515,14.83) 40.515,15.53 45.36,15.53
3D body: height 8.5, standoff 0, extent -47.901,-1.771 47.901,15.533

## IDC2.54-H60C [mm] "Connector; IDC, Low Profile Male Header, Thru-Hole; 60 Position; Right Angle; Pitch 2.54 mm; Body 84.02 x 8.9 x 9.2 mm (LxWxH)"
height 9.2
pads (60):
  rect 1.65x1.65 hole 1: 1(-36.83,-2.54)
  round 1.65 hole 1: 2(-36.83,0) 3(-34.29,-2.54) 4(-34.29,0) 5(-31.75,-2.54) 6(-31.75,0) 7(-29.21,-2.54) 8(-29.21,0) 9(-26.67,-2.54) 10(-26.67,0) 11(-24.13,-2.54) 12(-24.13,0) 13(-21.59,-2.54) 14(-21.59,0) 15(-19.05,-2.54) 16(-19.05,0) 17(-16.51,-2.54) 18(-16.51,0) 19(-13.97,-2.54) 20(-13.97,0) 21(-11.43,-2.54) 22(-11.43,0) 23(-8.89,-2.54) 24(-8.89,0) 25(-6.35,-2.54) 26(-6.35,0) 27(-3.81,-2.54) 28(-3.81,0) 29(-1.27,-2.54) 30(-1.27,0) 31(1.27,-2.54) 32(1.27,0) 33(3.81,-2.54) 34(3.81,0) 35(6.35,-2.54) 36(6.35,0) 37(8.89,-2.54) 38(8.89,0) 39(11.43,-2.54) 40(11.43,0) 41(13.97,-2.54) 42(13.97,0) 43(16.51,-2.54) 44(16.51,0) 45(19.05,-2.54) 46(19.05,0) 47(21.59,-2.54) 48(21.59,0) 49(24.13,-2.54) 50(24.13,0) 51(26.67,-2.54) 52(26.67,0) 53(29.21,-2.54) 54(29.21,0) 55(31.75,-2.54) 56(31.75,0) 57(34.29,-2.54) 58(34.29,0) 59(36.83,-2.54) 60(36.83,0)
Top Overlay:
  lines w0.2: -38.055,0 -42.01,0 -42.01,9.45 42.01,9.45 42.01,0 38.055,0 ; -2.05,9.45 -2.05,3.48 2.05,3.48 2.05,9.45
  text "59" at 35.58,-5.24 h1.5
  text "60" at 35.58,1.2 h1.5
  text "1" at -37.08,-5.24 h1.5
  text "2" at -37.33,1.2 h1.5
  text "29" at -2.52,-5.24 h1.5
  text "30" at -2.52,1.2 h1.5
Mechanical 13:
  lines w0.1: -42.01,0 -42.01,9.45 42.01,9.45 42.01,0 -42.01,0
3D body: height 9.2, standoff 0, extent -42.01,0 42.01,9.45

## IDC2.54-H64 [mm] "Connector; IDC, Thru-Hole; 64 Position; Right Angle; Pitch 2.54 mm; Body 100.88 x 8.5 x 25.75 mm (LxHxW), Locking levers"
height 8.5
pads (66):
  rect 1.65x1.65 hole 1: 1(-39.37,-1.27)
  round 1.65 hole 1: 2(-39.37,1.27) 3(-36.83,-1.27) 4(-36.83,1.27) 5(-34.29,-1.27) 6(-34.29,1.27) 7(-31.75,-1.27) 8(-31.75,1.27) 9(-29.21,-1.27) 10(-29.21,1.27) 11(-26.67,-1.27) 12(-26.67,1.27) 13(-24.13,-1.27) 14(-24.13,1.27) 15(-21.59,-1.27) 16(-21.59,1.27) 17(-19.05,-1.27) 18(-19.05,1.27) 19(-16.51,-1.27) 20(-16.51,1.27) 21(-13.97,-1.27) 22(-13.97,1.27) 23(-11.43,-1.27) 24(-11.43,1.27) 25(-8.89,-1.27) 26(-8.89,1.27) 27(-6.35,-1.27) 28(-6.35,1.27) 29(-3.81,-1.27) 30(-3.81,1.27) 31(-1.27,-1.27) 32(-1.27,1.27) 33(1.27,-1.27) 34(1.27,1.27) 35(3.81,-1.27) 36(3.81,1.27) 37(6.35,-1.27) 38(6.35,1.27) 39(8.89,-1.27) 40(8.89,1.27) 41(11.43,-1.27) 42(11.43,1.27) 43(13.97,-1.27) 44(13.97,1.27) 45(16.51,-1.27) 46(16.51,1.27) 47(19.05,-1.27) 48(19.05,1.27) 49(21.59,-1.27) 50(21.59,1.27) 51(24.13,-1.27) 52(24.13,1.27) 53(26.67,-1.27) 54(26.67,1.27) 55(29.21,-1.27) 56(29.21,1.27) 57(31.75,-1.27) 58(31.75,1.27) 59(34.29,-1.27) 60(34.29,1.27) 61(36.83,-1.27) 62(36.83,1.27) 63(39.37,-1.27) 64(39.37,1.27)
  round 2.5 hole 2.8 unplated: MH1(-45.21,0.53) MH2(45.21,0.53)
Top Overlay:
  lines w0.2: -51.41,8.851 -50.445,9.3 ; -51.281,8.563 -50.61,8.877 ; -51.275,21.6 -49.552,22.725 cw(c-49.403,22.387) -49.137,22.644 -48.212,21.245 cw(c-48.532,21.225) -48.584,20.91 ccw(c-48.852,20.595) -48.987,20.985 ; -50.353,20.103 -48.99,20.991 ; -50.083,7.925 -50.61,8.877 ; -49.983,8.378 -50.445,9.3 ; -48.055,16.383 -53.279,13.84 ; -47.9,15.53 -43.055,15.53 cw(c-43.055,14.83) -42.355,14.83 -42.355,12.73 ccw(c-41.655,12.73) -41.655,12.03 41.655,12.03 ccw(c41.655,12.73) 42.355,12.73 42.355,14.83 cw(c43.055,14.83) 43.055,15.53 47.9,15.53 ; -47.89,15.53 ccw(c-47.905,14.83) -48.55,15.102 -50.44,6.23 ; -47.484,15.53 -51.618,22.058 ccw(c-51.941,21.956) -52.083,22.265 -52.49,21.301 -53.52,22.501 -54.15,21.301 -54.9,22.501 -55.45,21.301 -56.15,22.501 -56.77,21.301 -57.42,22.501 -58.02,21.301 -58.765,22.501 ; -40.595,-1.77 -50.44,-1.77 -50.44,6.23 ; -2.05,5.53 -2.05,12.03 ; -2.04,5.53 2.06,5.53 ; 2.05,5.534 2.05,12.03 ; 40.48,-1.77 50.44,-1.77 50.44,6.23 ; 47.484,15.53 51.618,22.058 cw(c51.941,21.956) 52.083,22.265 52.49,21.301 53.52,22.501 54.15,21.301 54.9,22.501 55.45,21.301 56.15,22.501 56.77,21.301 57.42,22.501 58.02,21.301 58.765,22.501 ; 47.89,15.53 cw(c47.905,14.83) 48.55,15.102 50.44,6.23 ; 48.055,16.383 53.279,13.84 ; 48.987,20.985 ccw(c48.852,20.595) 48.584,20.91 cw(c48.532,21.225) 48.212,21.245 49.137,22.644 cw(c49.403,22.387) 49.552,22.725 51.275,21.6 ; 48.99,20.991 50.353,20.103 ; 49.983,8.378 50.445,9.3 ; 50.083,7.925 50.61,8.877 ; 51.281,8.563 50.61,8.877 ; 51.41,8.851 50.445,9.3 ; -59.02,22.03 -60.631,22.03 ccw(c-60.631,21.69) -60.94,21.549 -54.405,16.455 -53.279,13.84 ; -59.02,22.03 -58.765,22.501 ; -59.02,22.03 -58.765,22.501 ; -53.279,13.84 -50.44,6.23 ; -50.61,8.877 -50.445,9.3 ; 50.44,6.23 53.279,13.84 ; 50.445,9.3 50.61,8.877 ; 53.279,13.84 54.405,16.455 60.94,21.549 ccw(c60.631,21.69) 60.631,22.03 59.02,22.03 ; 58.765,22.501 59.02,22.03 ; 58.765,22.501 59.02,22.03
  text "31" at -2.27,-3.97 h1.5
  text "32" at -2.52,2.47 h1.5
  text "63" at 38.12,-3.97 h1.5
  text "64" at 38.12,2.47 h1.5
  text "1" at -39.62,-3.97 h1.5
  text "2" at -39.87,2.47 h1.5
Mechanical 13:
  lines w0.1: -51.275,21.6 -49.552,22.725 cw(c-49.403,22.387) -49.137,22.644 -48.212,21.245 cw(c-48.532,21.225) -48.584,20.91 ccw(c-48.852,20.595) -48.987,20.985 ; -50.353,20.103 -48.99,20.991 ; -47.9,15.53 -43.055,15.53 cw(c-43.055,14.83) -42.355,14.83 -42.355,12.73 ccw(c-41.655,12.73) -41.655,12.03 41.655,12.03 ccw(c41.655,12.73) 42.355,12.73 42.355,14.83 cw(c43.055,14.83) 43.055,15.53 47.9,15.53 ; -47.89,15.53 ccw(c-47.905,14.83) -48.55,15.102 -50.44,6.23 ; -47.484,15.53 -51.618,22.058 ccw(c-51.941,21.956) -52.083,22.265 -52.49,21.301 -53.52,22.501 -54.15,21.301 -54.9,22.501 -55.45,21.301 -56.15,22.501 -56.77,21.301 -57.42,22.501 -58.02,21.301 -58.765,22.501 ; 47.484,15.53 51.618,22.058 cw(c51.941,21.956) 52.083,22.265 52.49,21.301 53.52,22.501 54.15,21.301 54.9,22.501 55.45,21.301 56.15,22.501 56.77,21.301 57.42,22.501 58.02,21.301 58.765,22.501 ; 47.89,15.53 cw(c47.905,14.83) 48.55,15.102 50.44,6.23 ; 48.987,20.985 ccw(c48.852,20.595) 48.584,20.91 cw(c48.532,21.225) 48.212,21.245 49.137,22.644 cw(c49.403,22.387) 49.552,22.725 51.275,21.6 ; 48.99,20.991 50.353,20.103 ; -59.02,22.03 -58.765,22.501 ; -59.02,22.03 -60.631,22.03 ccw(c-60.631,21.69) -60.94,21.549 -54.405,16.455 -53.279,13.84 -50.44,6.23 ; -59.02,22.03 -58.765,22.501 ; -50.44,6.23 -50.44,-1.77 50.44,-1.77 50.44,6.23 ; 50.44,6.23 53.279,13.84 54.405,16.455 60.94,21.549 ccw(c60.631,21.69) 60.631,22.03 59.02,22.03 ; 58.765,22.501 59.02,22.03 ; 58.765,22.501 59.02,22.03
3D body: height 8.5, standoff 0, extent -50.441,-1.771 50.441,15.533